# EAGLE library part WE-RJ45_LAN_10/100_BASET_2X_STD_LED (library Wuerth_Elektronik_eiSos_ v6.8)
WE-RJ45 LAN Transformer 10/100 BaseT with LED x2 - RJ45 connector with integrated transformer common mode choke - 350 µH min.OCL with 8 mA bias - Complies with IEEE 802.3 - Extended temperature range from 0°C to +70°C available -- ADSL Modem -- Embedded PC -- LAN network applications -- Hub, Router, Switches
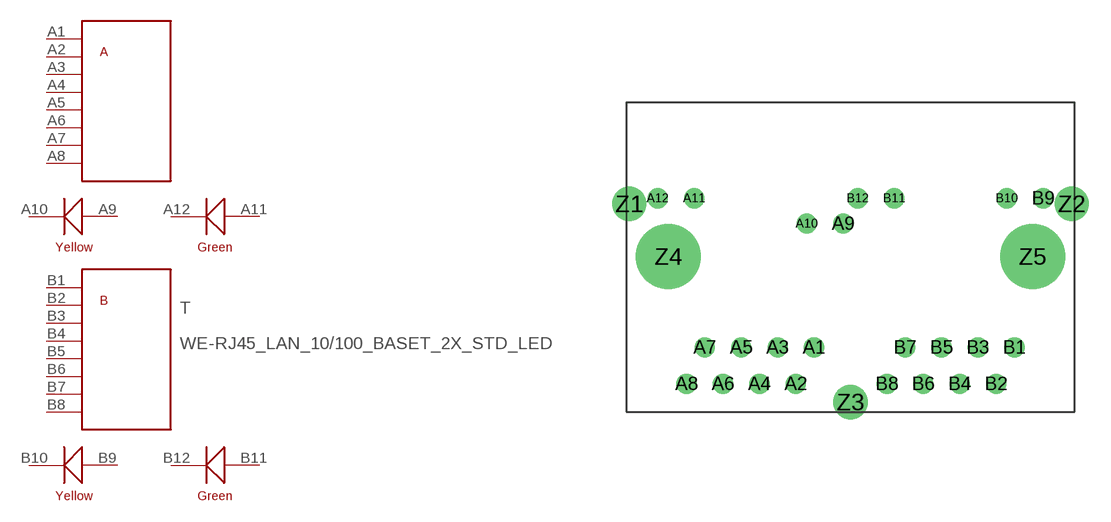
[diagram p106: symbol with the pads of WE-RJ45_LAN_10/100_BASET_7499021121; footprint WE-RJ45_LAN_10/100_BASET_7499021121]

Designator prefix T

## WE-RJ45_LAN_10/100_BASET_2X_STD_LED_7499021121  [WE-RJ45_LAN_10/100_BASET_7499021121]
A1  A1  pas
A2  A2  pas
A3  A3  pas
A4  A4  pas
A5  A5  pas
A6  A6  pas
A7  A7  pas
A8  A8  pas
A9  A9  pas
A10  A10  pas
A11  A11  pas
A12  A12  pas
B1  B1  pas
B2  B2  pas
B3  B3  pas
B4  B4  pas
B5  B5  pas
B6  B6  pas
B7  B7  pas
B8  B8  pas
B9  B9  pas
B10  B10  pas
B11  B11  pas
B12  B12  pas

## Footprint WE-RJ45_LAN_10/100_BASET_7499021121 (pad centres in mm)
WE-RJ45 LAN Transformer 10/100 BaseT with LED x 2
drill 0.9 round: A1 -2.54,-6.35; A2 -3.81,-8.89; A3 -5.08,-6.35; A4 -6.35,-8.89; A5 -7.62,-6.35; A6 -8.89,-8.89; A7 -10.16,-6.35; A8 -11.43,-8.89; A9 -0.51,2.29; A10 -3.05,2.29; A11 -10.9,4.06; A12 -13.44,4.06; B1 11.43,-6.35; B2 10.16,-8.89; B3 8.89,-6.35; B4 7.62,-8.89; B5 6.35,-6.35; B6 5.08,-8.89; B7 3.81,-6.35; B8 2.54,-8.89; B9 13.44,4.06; B10 10.9,4.06; B11 3.05,4.06; B12 0.51,4.06
drill 1.6 round: Z1 -15.43,3.68; Z2 15.43,3.68; Z3 0,-10.16
drill 3.52 round: Z4 -12.7,0; Z5 12.7,0